# EAGLE library part WT588D-20TSSOP (library WT588D-20TSSOP)
WT588D-20TSSOP Audio playback ic
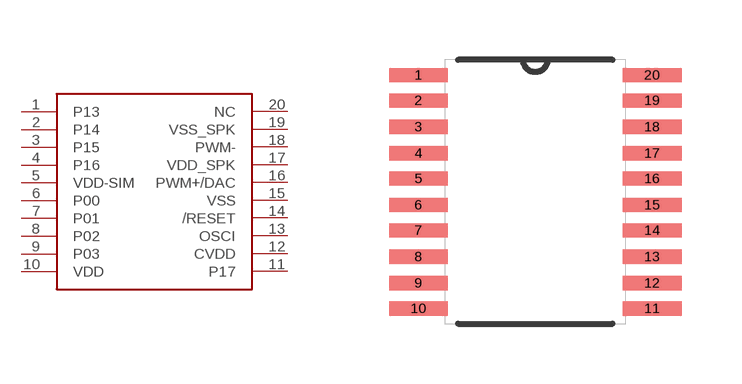
[diagram p0: symbol with the pads of WT588D-20TSSOP; footprint WT588D-20TSSOP]

Designator prefix -

## WT588D-20TSSOP  [WT588D-20TSSOP]
1  P13
2  P14
3  P15
4  P16
5  VDD-SIM
6  P00
7  P01
8  P02
9  P03
10  VDD
11  P17
12  CVDD
13  OSCI
14  /RESET
15  VSS
16  PWM+/DAC
17  VDD_SPK
18  PWM-
19  VSS_SPK
20  NC

## Footprint WT588D-20TSSOP (pad centres in mm)
smd 1.473 x 0.356: 1 -2.921,2.921; 2 -2.921,2.286; 3 -2.921,1.626; 4 -2.921,0.965; 5 -2.921,0.33; 6 -2.921,-0.33; 7 -2.921,-0.965; 8 -2.921,-1.626; 9 -2.921,-2.286; 10 -2.921,-2.921; 11 2.921,-2.921; 12 2.921,-2.286; 13 2.921,-1.626; 14 2.921,-0.965; 15 2.921,-0.33; 16 2.921,0.33; 17 2.921,0.965; 18 2.921,1.626; 19 2.921,2.286; 20 2.921,2.921